# Altium schematic symbol library ABS25-32.768KHZ-T.SchLib: 1 symbol
Pins are listed as number, name and electrical type; pins without a type are passive.

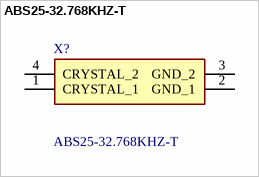
[diagram p0: symbol ABS25-32.768KHZ-T]

## ABS25-32.768KHZ-T
designator X?
ABRACON - ABS25-32.768KHZ-T - CRYSTAL, 32.768K, 12.5PF CL 8X2.5 SMD; Geometry.Height: 2.6mm; Manufacturer_Name: ABRACON; Manufacturer_Part_Number: ABS25-32.768KHZ-T; Mouser Part Number: 815-ABS25-32.768KHZT; Mouser Price/Stock: https://www.mouser.co.uk/ProductDetail/ABRACON/ABS25-32.768KHZ-T?qs=2xLVn2jvFusfExB%252ByZEnpA%3D%3D; Arrow Part Number: ABS25-32.768KHZ-T; Arrow Price/Stock: https://www.arrow.com/en/products/abs25-32.768khz-t/abracon?region=europe; Datasheet Link: https://abracon.com/Resonators/abs25.pdf
footprint ABS2532768KHZT
pins: 1 CRYSTAL_1, 2 GND_1, 3 GND_2, 4 CRYSTAL_2